# EAGLE library part LORAWAN (library diy-edondroid)
design by edondroid
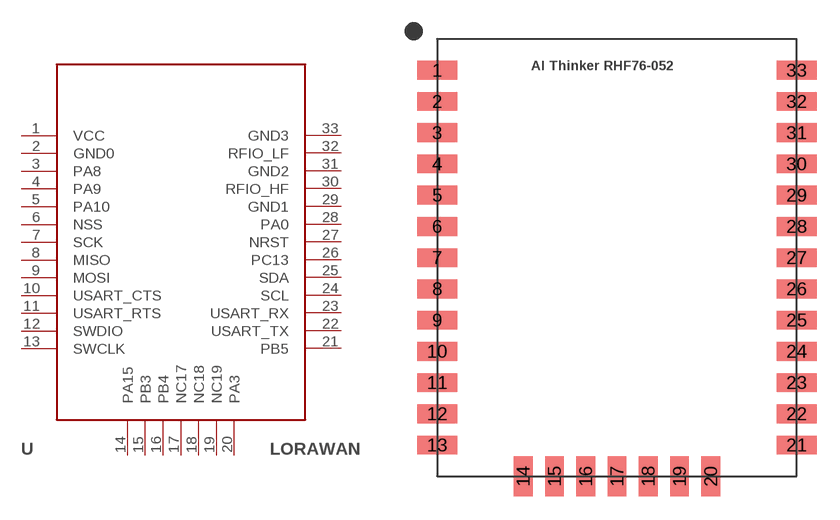
[diagram p2: symbol with the pads of AI-THINKER-RHF76-052; footprint AI-THINKER-RHF76-052]

Designator prefix U

## LORAWAN  [AI-THINKER-RHF76-052]
1  VCC
2  GND0
3  PA8
4  PA9
5  PA10
6  NSS
7  SCK
8  MISO
9  MOSI
10  USART_CTS
11  USART_RTS
12  SWDIO
13  SWCLK
14  PA15
15  PB3
16  PB4
17  NC17
18  NC18
19  NC19
20  PA3
21  PB5
22  USART_TX
23  USART_RX
24  SCL
25  SDA
26  PC13
27  NRST
28  PA0
29  GND1
30  RFIO_HF
31  GND2
32  RFIO_LF
33  GND3

## Footprint AI-THINKER-RHF76-052 (pad centres in mm)
smd 2.54 x 1.2: 1 -11.43,12.03; 2 -11.43,10.03; 3 -11.43,8.03; 4 -11.43,6.03; 5 -11.43,4.03; 6 -11.43,2.03; 7 -11.43,0.03; 8 -11.43,-1.97; 9 -11.43,-3.97; 10 -11.43,-5.97; 11 -11.43,-7.97; 12 -11.43,-9.97; 13 -11.43,-11.97; 21 11.57,-11.97; 22 11.57,-9.97; 23 11.57,-7.97; 24 11.57,-5.97; 25 11.57,-3.97; 26 11.57,-1.97; 27 11.57,0.03; 28 11.57,2.03; 29 11.57,4.03; 30 11.57,6.03; 31 11.57,8.03; 32 11.57,10.03; 33 11.57,12.03
smd 1.2 x 2.54: 14 -5.93,-13.97; 15 -3.93,-13.97; 16 -1.93,-13.97; 17 0.07,-13.97; 18 2.07,-13.97; 19 4.07,-13.97; 20 6.07,-13.97